# Altium schematic symbol library SamacSys.SchLib: 21 symbols
Pins are listed as number, name and electrical type; pins without a type are passive.

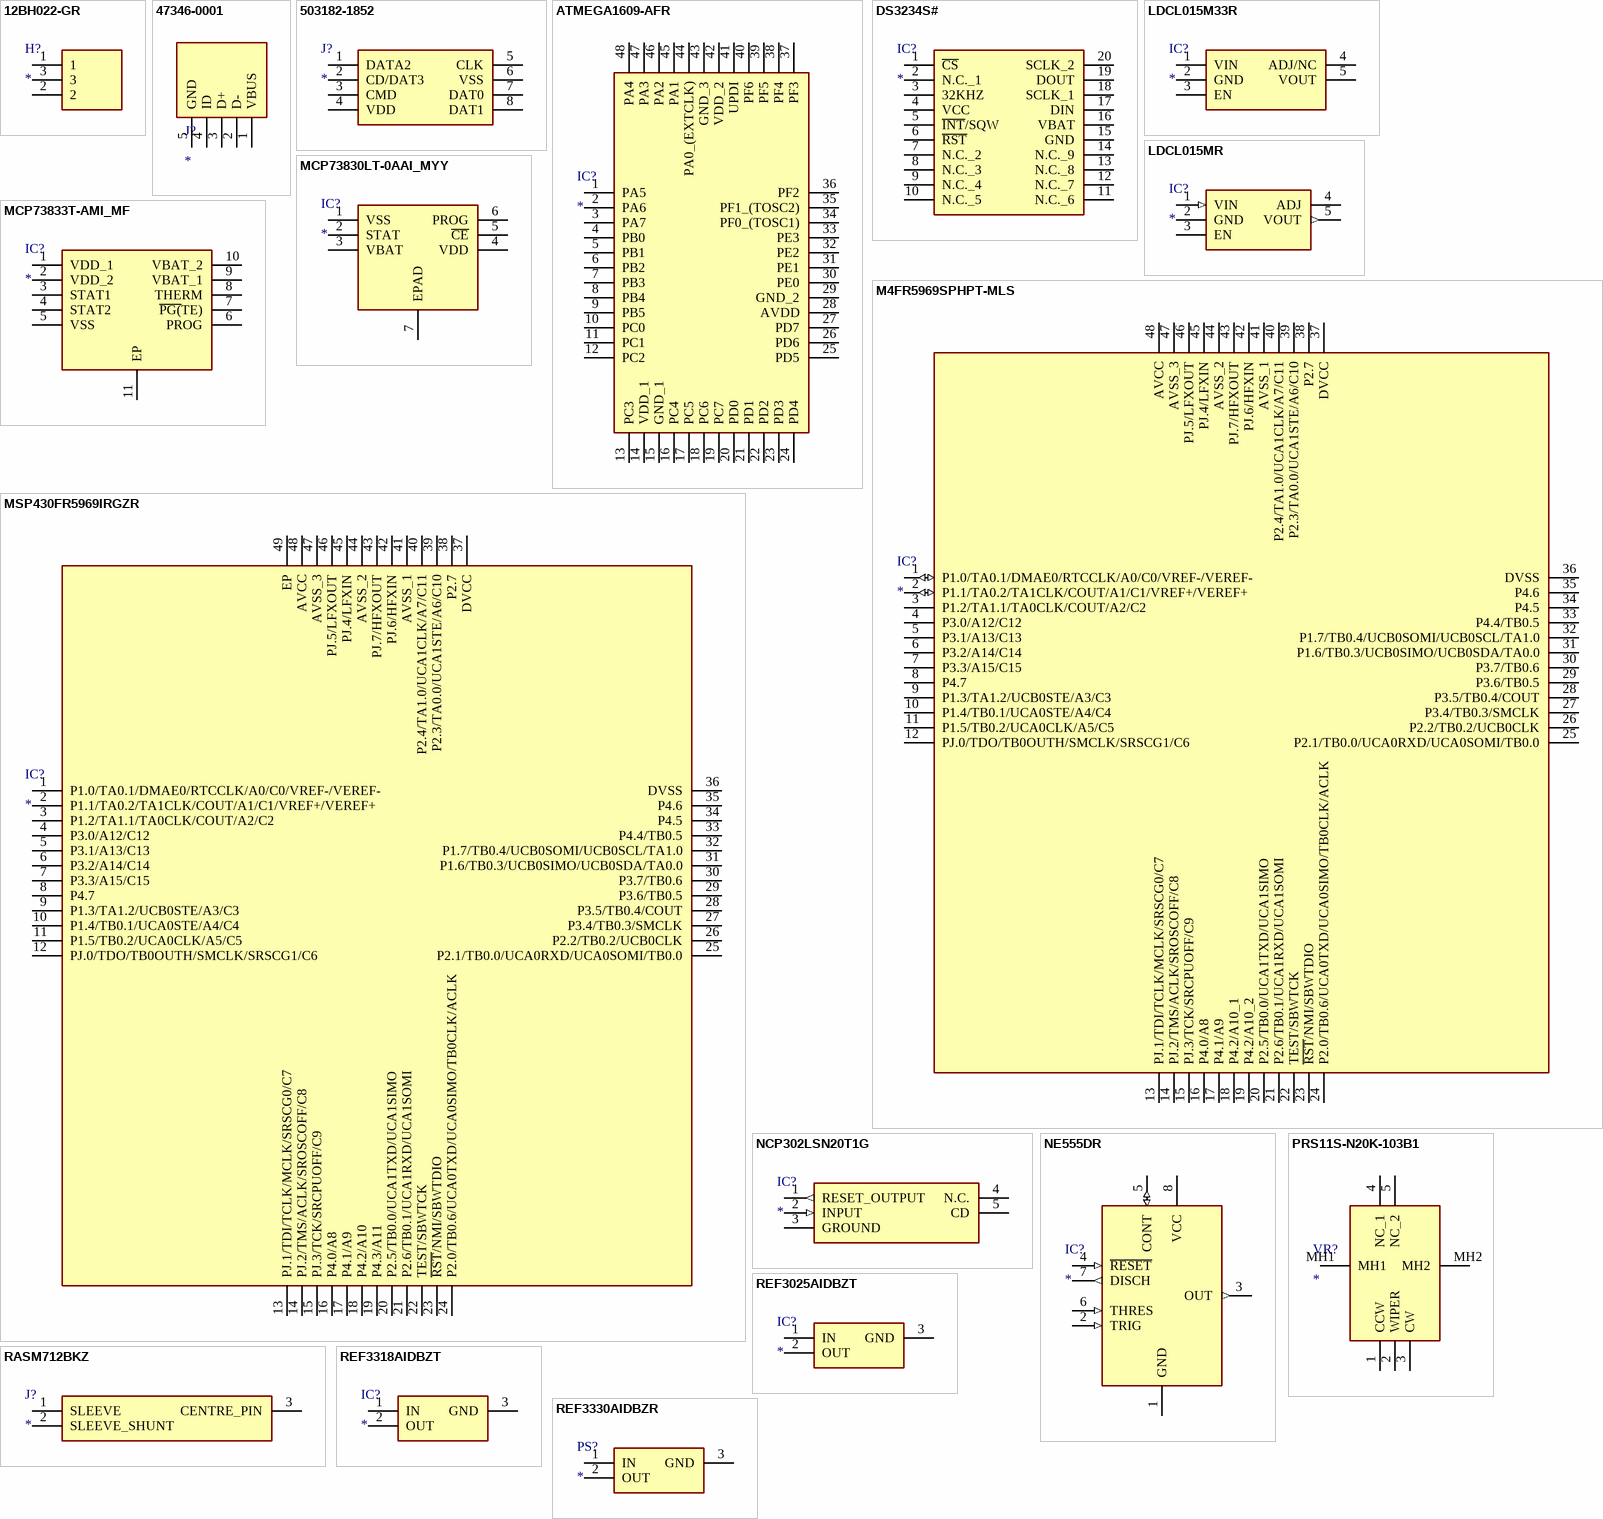
[diagram p0: symbols 12BH022-GR to REF3330AIDBZR]

## 12BH022-GR
designator H?
Hardware; Manufacturer_Name: Eagle Plastic Devices; Manufacturer_Part_Number: 12BH022-GR; Datasheet Link: https://componentsearchengine.com//12BH022-GR.pdf; Height: 4mm; Mouser2 Part Number: 12BH022-GR; Mouser2 Price/Stock: https://www.mouser.com/Search/Refine.aspx?Keyword=12BH022-GR
footprint 12BH022GR
pins: 1, 2, 3

## 47346-0001
designator J?
Connector; Manufacturer_Name: Molex; Manufacturer_Part_Number: 47346-0001; Datasheet Link: http://www.molex.com/pdm_docs/sd/473460001_sd.pdf
footprint 47346-0001
pins: 1 VBUS, 2 D-, 3 D+, 4 ID, 5 GND

## 503182-1852
designator J?
Connector; Manufacturer_Name: Molex; Manufacturer_Part_Number: 503182-1852; Datasheet Link: https://componentsearchengine.com//503182-1852.pdf; Mouser2 Part Number: 538-503182-1852; Mouser2 Price/Stock: https://www.mouser.com/Search/Refine.aspx?Keyword=538-503182-1852
footprint 5031821852
pins: 1 DATA2, 2 CD/DAT3, 3 CMD, 4 VDD, 5 CLK, 6 VSS, 7 DAT0, 8 DAT1

## ATMEGA1609-AFR
designator IC?
Integrated Circuit; Manufacturer_Name: Microchip; Manufacturer_Part_Number: ATMEGA1609-AFR; Datasheet Link: https://componentsearchengine.com//ATMEGA1609-AFR.pdf; Height: 1.2mm; Mouser2 Part Number: 579-ATMEGA1609-AFR; Mouser2 Price/Stock: https://www.mouser.com/Search/Refine.aspx?Keyword=579-ATMEGA1609-AFR
footprint QFP50P900X900X120-48N
pins: 1 PA5, 2 PA6, 3 PA7, 4 PB0, 5 PB1, 6 PB2, 7 PB3, 8 PB4, 9 PB5, 10 PC0, 11 PC1, 12 PC2, 13 PC3, 14 VDD_1, 15 GND_1, 16 PC4, 17 PC5, 18 PC6, 19 PC7, 20 PD0, 21 PD1, 22 PD2, 23 PD3, 24 PD4, 25 PD5, 26 PD6, 27 PD7, 28 AVDD, 29 GND_2, 30 PE0, 31 PE1, 32 PE2, 33 PE3, 34 PF0_(TOSC1), 35 PF1_(TOSC2), 36 PF2, 37 PF3, 38 PF4, 39 PF5, 40 PF6, 41 UPDI, 42 VDD_2, 43 GND_3, 44 PA0_(EXTCLK), 45 PA1, 46 PA2, 47 PA3, 48 PA4

## DS3234S#
designator IC?
Integrated Circuit; Manufacturer_Name: Maxim Integrated; Manufacturer_Part_Number: DS3234S#; Datasheet Link: https://componentsearchengine.com//DS3234S#.pdf; Height: 2.65mm; Mouser2 Part Number: 700-DS3234S#; Mouser2 Price/Stock: https://www.mouser.com/Search/Refine.aspx?Keyword=700-DS3234S%23
footprint SOIC127P1032X265-20N
pins: 1 ~{CS}, 2 N.C._1, 3 32KHZ, 4 VCC, 5 ~{INT}/SQW, 6 ~{RST}, 7 N.C._2, 8 N.C._3, 9 N.C._4, 10 N.C._5, 11 N.C._6, 12 N.C._7, 13 N.C._8, 14 N.C._9, 15 GND, 16 VBAT, 17 DIN, 18 SCLK_1, 19 DOUT, 20 SCLK_2

## LDCL015M33R
designator IC?
Integrated Circuit; Manufacturer_Name: STMicroelectronics; Manufacturer_Part_Number: LDCL015M33R; Datasheet Link: https://www.st.com/resource/en/datasheet/ldcl015.pdf; Height: 1.45mm
footprint SOT95P280X145-5N (SOT23, 5-Leads, Body 2,9x2,8mm (max), Pitch 0,95mm, IPC Medium Density)
pins: 1 VIN, 2 GND, 3 EN, 4 ADJ/NC, 5 VOUT

## LDCL015MR
designator IC?
Integrated Circuit; Manufacturer_Name: STMicroelectronics; Manufacturer_Part_Number: LDCL015MR; Datasheet Link: http://www.st.com/web/en/resource/technical/document/datasheet/DM00037343.pdf; Height: 1.45mm
footprint SOT95P280X145-5N (SOT23, 5-Leads, Body 2,9x2,8mm (max), Pitch 0,95mm, IPC Medium Density)
pins: 1 VIN (in), 2 GND (power), 3 EN, 4 ADJ, 5 VOUT (out)

## M4FR5969SPHPT-MLS
designator IC?
Integrated Circuit; Manufacturer_Name: Texas Instruments; Manufacturer_Part_Number: M4FR5969SPHPT-MLS; Datasheet Link: https://www.ti.com/lit/ds/symlink/msp430fr5969-sp.pdf?HQS=TI-null-null-mousermode-df-pf-null-wwe&DCM=yes&ref_url=https%253A%252F%252Fwww.mouser.de%252F&distId=26; Height: 1.6mm; Arrow Part Number: M4FR5969SPHPT-MLS
footprint QFP50P900X900X160-48N
pins: 1 P1.0/TA0.1/DMAE0/RTCCLK/A0/C0/VREF-/VEREF- (io), 2 P1.1/TA0.2/TA1CLK/COUT/A1/C1/VREF+/VEREF+ (io), 3 P1.2/TA1.1/TA0CLK/COUT/A2/C2, 4 P3.0/A12/C12, 5 P3.1/A13/C13, 6 P3.2/A14/C14, 7 P3.3/A15/C15, 8 P4.7, 9 P1.3/TA1.2/UCB0STE/A3/C3, 10 P1.4/TB0.1/UCA0STE/A4/C4, 11 P1.5/TB0.2/UCA0CLK/A5/C5, 12 PJ.0/TDO/TB0OUTH/SMCLK/SRSCG1/C6, 13 PJ.1/TDI/TCLK/MCLK/SRSCG0/C7, 14 PJ.2/TMS/ACLK/SROSCOFF/C8, 15 PJ.3/TCK/SRCPUOFF/C9, 16 P4.0/A8, 17 P4.1/A9, 18 P4.2/A10_1, 19 P4.2/A10_2, 20 P2.5/TB0.0/UCA1TXD/UCA1SIMO, 21 P2.6/TB0.1/UCA1RXD/UCA1SOMI, 22 TEST/SBWTCK, 23 ~{RST}/NMI/SBWTDIO, 24 P2.0/TB0.6/UCA0TXD/UCA0SIMO/TB0CLK/ACLK, 25 P2.1/TB0.0/UCA0RXD/UCA0SOMI/TB0.0, 26 P2.2/TB0.2/UCB0CLK, 27 P3.4/TB0.3/SMCLK, 28 P3.5/TB0.4/COUT, 29 P3.6/TB0.5, 30 P3.7/TB0.6, 31 P1.6/TB0.3/UCB0SIMO/UCB0SDA/TA0.0, 32 P1.7/TB0.4/UCB0SOMI/UCB0SCL/TA1.0, 33 P4.4/TB0.5, 34 P4.5, 35 P4.6, 36 DVSS, 37 DVCC, 38 P2.7, 39 P2.3/TA0.0/UCA1STE/A6/C10, 40 P2.4/TA1.0/UCA1CLK/A7/C11, 41 AVSS_1, 42 PJ.6/HFXIN, 43 PJ.7/HFXOUT, 44 AVSS_2, 45 PJ.4/LFXIN, 46 PJ.5/LFXOUT, 47 AVSS_3, 48 AVCC

## MCP73830LT-0AAI_MYY
designator IC?
Integrated Circuit; Manufacturer_Name: Microchip; Manufacturer_Part_Number: MCP73830LT-0AAI/MYY; Datasheet Link: https://componentsearchengine.com//MCP73830LT-0AAI_MYY.pdf; Height: 0.8mm; Mouser2 Part Number: 579-MCP73830LT0AAIMY; Mouser2 Price/Stock: https://www.mouser.com/Search/Refine.aspx?Keyword=579-MCP73830LT0AAIMY
footprint SON50P200X200X80-7N-D
pins: 1 VSS, 2 STAT, 3 VBAT, 4 VDD, 5 ~{CE}, 6 PROG, 7 EPAD

## MCP73833T-AMI_MF
designator IC?
Integrated Circuit; Manufacturer_Name: Microchip; Manufacturer_Part_Number: MCP73833T-AMI/MF; Datasheet Link: https://componentsearchengine.com//MCP73833T-AMI_MF.pdf; Height: 1mm; Mouser2 Part Number: 579-MCP73833T-AMI/MF; Mouser2 Price/Stock: https://www.mouser.com/Search/Refine.aspx?Keyword=579-MCP73833T-AMI%2FMF
footprint SON50P300X300X100-11N-D
pins: 1 VDD_1, 2 VDD_2, 3 STAT1, 4 STAT2, 5 VSS, 6 PROG, 7 ~{PG(}TE), 8 THERM, 9 VBAT_1, 10 VBAT_2, 11 EP

## MSP430FR5969IRGZR
designator IC?
Integrated Circuit; Manufacturer_Name: Texas Instruments; Manufacturer_Part_Number: MSP430FR5969IRGZR; Datasheet Link: http://www.ti.com/lit/gpn/msp430fr5969; Height: 1mm
footprint QFN50P700X700X100-49N-D
pins: 1 P1.0/TA0.1/DMAE0/RTCCLK/A0/C0/VREF-/VEREF-, 2 P1.1/TA0.2/TA1CLK/COUT/A1/C1/VREF+/VEREF+, 3 P1.2/TA1.1/TA0CLK/COUT/A2/C2, 4 P3.0/A12/C12, 5 P3.1/A13/C13, 6 P3.2/A14/C14, 7 P3.3/A15/C15, 8 P4.7, 9 P1.3/TA1.2/UCB0STE/A3/C3, 10 P1.4/TB0.1/UCA0STE/A4/C4, 11 P1.5/TB0.2/UCA0CLK/A5/C5, 12 PJ.0/TDO/TB0OUTH/SMCLK/SRSCG1/C6, 13 PJ.1/TDI/TCLK/MCLK/SRSCG0/C7, 14 PJ.2/TMS/ACLK/SROSCOFF/C8, 15 PJ.3/TCK/SRCPUOFF/C9, 16 P4.0/A8, 17 P4.1/A9, 18 P4.2/A10, 19 P4.3/A11, 20 P2.5/TB0.0/UCA1TXD/UCA1SIMO, 21 P2.6/TB0.1/UCA1RXD/UCA1SOMI, 22 TEST/SBWTCK, 23 ~{RST}/NMI/SBWTDIO, 24 P2.0/TB0.6/UCA0TXD/UCA0SIMO/TB0CLK/ACLK, 25 P2.1/TB0.0/UCA0RXD/UCA0SOMI/TB0.0, 26 P2.2/TB0.2/UCB0CLK, 27 P3.4/TB0.3/SMCLK, 28 P3.5/TB0.4/COUT, 29 P3.6/TB0.5, 30 P3.7/TB0.6, 31 P1.6/TB0.3/UCB0SIMO/UCB0SDA/TA0.0, 32 P1.7/TB0.4/UCB0SOMI/UCB0SCL/TA1.0, 33 P4.4/TB0.5, 34 P4.5, 35 P4.6, 36 DVSS, 37 DVCC, 38 P2.7, 39 P2.3/TA0.0/UCA1STE/A6/C10, 40 P2.4/TA1.0/UCA1CLK/A7/C11, 41 AVSS_1, 42 PJ.6/HFXIN, 43 PJ.7/HFXOUT, 44 AVSS_2, 45 PJ.4/LFXIN, 46 PJ.5/LFXOUT, 47 AVSS_3, 48 AVCC, 49 EP

## NCP302LSN20T1G
designator IC?
Integrated Circuit; Manufacturer_Name: ON Semiconductor; Manufacturer_Part_Number: NCP302LSN20T1G; Datasheet Link: http://www.onsemi.com/pub/Collateral/NCP302-D.PDF; Height: 1.1mm
footprint SOT95P275X110-5N
pins: 1 RESET_OUTPUT (out), 2 INPUT (in), 3 GROUND, 4 N.C., 5 CD

## NE555DR
designator IC?
Integrated Circuit; Manufacturer_Name: Texas Instruments; Manufacturer_Part_Number: NE555DR; Datasheet Link: http://www.ti.com/lit/ds/symlink/ne555.pdf; Height: 1.75mm; Mouser Part Number: 595-NE555DR; Mouser Price/Stock: https://www.mouser.com/Search/Refine.aspx?Keyword=595-NE555DR; RS Part Number: 1218414; RS Price/Stock: http://uk.rs-online.com/web/p/products/1218414
footprint SOIC127P600X175-8N
pins: 1 GND (power), 2 TRIG (in), 3 OUT (out), 4 ~{RESET} (in), 5 CONT (io), 6 THRES (in), 7 DISCH (out), 8 VCC (power)

## PRS11S-N20K-103B1
designator VR?
Variable Resistor; Manufacturer_Name: Bourns; Manufacturer_Part_Number: PRS11S-N20K-103B1; Datasheet Link: https://componentsearchengine.com/Datasheets/2/PRS11S-N20K-103B1.pdf; Height: 20.5mm
footprint PRS11SN20K103B1
pins: 1 CCW, 2 WIPER, 3 CW, 4 NC_1, 5 NC_2, MH1, MH2

## RASM712BKZ
designator J?
Connector; Manufacturer_Name: Switchcraft; Manufacturer_Part_Number: RASM712BKZ; Datasheet Link: https://componentsearchengine.com//RASM712BKZ.pdf; Height: 11mm; Mouser2 Part Number: 502-RASM712BKZ; Mouser2 Price/Stock: https://www.mouser.com/Search/Refine.aspx?Keyword=502-RASM712BKZ
footprint RASM712BKZ
pins: 1 SLEEVE, 2 SLEEVE_SHUNT, 3 CENTRE_PIN

## REF3025AIDBZT
designator IC?
Integrated Circuit; Manufacturer_Name: Texas Instruments; Manufacturer_Part_Number: REF3025AIDBZT; Datasheet Link: http://www.ti.com/lit/ds/symlink/ref3025.pdf; Height: 1.12mm
footprint SOT95P237X112-3N
pins: 1 IN, 2 OUT, 3 GND

## REF3318AIDBZT
designator IC?
Integrated Circuit; Manufacturer_Name: Texas Instruments; Manufacturer_Part_Number: REF3318AIDBZT; Datasheet Link: http://www.ti.com/lit/gpn/ref3318
footprint SOT95P237X112-3N
pins: 1 IN, 2 OUT, 3 GND

## REF3330AIDBZR
designator PS?
Power Supply; Manufacturer_Name: Texas Instruments; Manufacturer_Part_Number: REF3330AIDBZR; Datasheet Link: https://componentsearchengine.com/Datasheets/2/REF3330AIDBZR.pdf; Height: 1.12mm; Mouser2 Part Number: 595-REF3330AIDBZR; Mouser2 Price/Stock: https://www.mouser.com/Search/Refine.aspx?Keyword=595-REF3330AIDBZR
footprint SOT95P237X112-3N
pins: 1 IN, 2 OUT, 3 GND

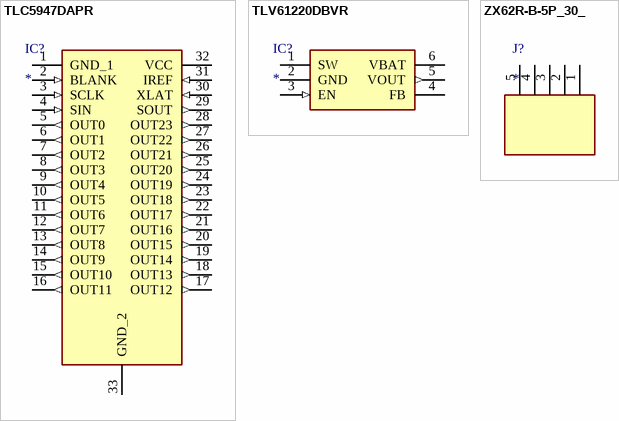
[diagram p1: symbols TLC5947DAPR to ZX62R-B-5P_30_]

## TLC5947DAPR
designator IC?
Integrated Circuit; Manufacturer_Name: Texas Instruments; Manufacturer_Part_Number: TLC5947DAPR; Datasheet Link: https://www.arrow.com/en/products/tlc5947dapr/texas-instruments; Height: 1.2mm; Mouser2 Part Number: 595-TLC5947DAPR; Mouser2 Price/Stock: https://www.mouser.com/Search/Refine.aspx?Keyword=595-TLC5947DAPR
footprint SOP65P810X120-33N
pins: 1 GND_1 (power), 2 BLANK (in), 3 SCLK (in), 4 SIN (in), 5 OUT0 (out), 6 OUT1 (out), 7 OUT2 (out), 8 OUT3 (out), 9 OUT4 (out), 10 OUT5 (out), 11 OUT6 (out), 12 OUT7 (out), 13 OUT8 (out), 14 OUT9 (out), 15 OUT10 (out), 16 OUT11 (out), 17 OUT12 (out), 18 OUT13 (out), 19 OUT14 (out), 20 OUT15 (out), 21 OUT16 (out), 22 OUT17 (out), 23 OUT18 (out), 24 OUT19 (out), 25 OUT20 (out), 26 OUT21 (out), 27 OUT22 (out), 28 OUT23 (out), 29 SOUT (out), 30 XLAT (in), 31 IREF (in), 32 VCC (power), 33 GND_2 (power)

## TLV61220DBVR
designator IC?
Integrated Circuit; Manufacturer_Name: Texas Instruments; Manufacturer_Part_Number: TLV61220DBVR; Datasheet Link: http://www.ti.com/lit/gpn/tlv61220; Height: 1.45mm; Mouser2 Part Number: 595-TLV61220DBVR; Mouser2 Price/Stock: https://www.mouser.com/Search/Refine.aspx?Keyword=595-TLV61220DBVR
footprint SOT95P280X145-6N
pins: 1 SW, 2 GND (power), 3 EN (in), 4 FB, 5 VOUT (out), 6 VBAT (power)

## ZX62R-B-5P_30_
designator J?
Connector; Manufacturer_Name: Hirose; Manufacturer_Part_Number: ZX62R-B-5P(30)
footprint ZX62R-B-5P(30)
pins: 1, 2, 3, 4, 5